# Altium schematic symbol library SCH - MCU - SI LABS - SI LABS EFR32BG22C224F512GN32 32-PIN QFN 4X4.SchLib: 1 symbol
Pins are listed as number, name and electrical type; pins without a type are passive.

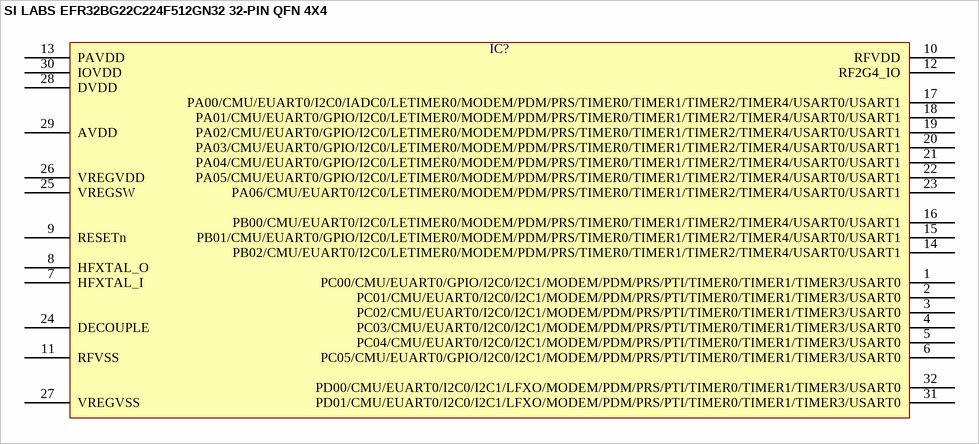
[diagram p0: symbol SI LABS EFR32BG22C224F512GN32 32-PIN QFN 4X4]

## SI LABS EFR32BG22C224F512GN32 32-PIN QFN 4X4
designator IC?  (value not drawn)
pins: 1 PC00/CMU/EUART0/GPIO/I2C0/I2C1/MODEM/PDM/PRS/PTI/TIMER0/TIMER1/TIMER3/USART0, 2 PC01/CMU/EUART0/I2C0/I2C1/MODEM/PDM/PRS/PTI/TIMER0/TIMER1/TIMER3/USART0, 3 PC02/CMU/EUART0/I2C0/I2C1/MODEM/PDM/PRS/PTI/TIMER0/TIMER1/TIMER3/USART0, 4 PC03/CMU/EUART0/I2C0/I2C1/MODEM/PDM/PRS/PTI/TIMER0/TIMER1/TIMER3/USART0, 5 PC04/CMU/EUART0/I2C0/I2C1/MODEM/PDM/PRS/PTI/TIMER0/TIMER1/TIMER3/USART0, 6 PC05/CMU/EUART0/GPIO/I2C0/I2C1/MODEM/PDM/PRS/PTI/TIMER0/TIMER1/TIMER3/USART0, 7 HFXTAL_I, 8 HFXTAL_O, 9 RESETn, 10 RFVDD, 11 RFVSS, 12 RF2G4_IO, 13 PAVDD, 14 PB02/CMU/EUART0/I2C0/LETIMER0/MODEM/PDM/PRS/TIMER0/TIMER1/TIMER2/TIMER4/USART0/USART1, 15 PB01/CMU/EUART0/GPIO/I2C0/LETIMER0/MODEM/PDM/PRS/TIMER0/TIMER1/TIMER2/TIMER4/USART0/USART1, 16 PB00/CMU/EUART0/I2C0/LETIMER0/MODEM/PDM/PRS/TIMER0/TIMER1/TIMER2/TIMER4/USART0/USART1, 17 PA00/CMU/EUART0/I2C0/IADC0/LETIMER0/MODEM/PDM/PRS/TIMER0/TIMER1/TIMER2/TIMER4/USART0/USART1, 18 PA01/CMU/EUART0/GPIO/I2C0/LETIMER0/MODEM/PDM/PRS/TIMER0/TIMER1/TIMER2/TIMER4/USART0/USART1, 19 PA02/CMU/EUART0/GPIO/I2C0/LETIMER0/MODEM/PDM/PRS/TIMER0/TIMER1/TIMER2/TIMER4/USART0/USART1, 20 PA03/CMU/EUART0/GPIO/I2C0/LETIMER0/MODEM/PDM/PRS/TIMER0/TIMER1/TIMER2/TIMER4/USART0/USART1, 21 PA04/CMU/EUART0/GPIO/I2C0/LETIMER0/MODEM/PDM/PRS/TIMER0/TIMER1/TIMER2/TIMER4/USART0/USART1, 22 PA05/CMU/EUART0/GPIO/I2C0/LETIMER0/MODEM/PDM/PRS/TIMER0/TIMER1/TIMER2/TIMER4/USART0/USART1, 23 PA06/CMU/EUART0/I2C0/LETIMER0/MODEM/PDM/PRS/TIMER0/TIMER1/TIMER2/TIMER4/USART0/USART1, 24 DECOUPLE, 25 VREGSW, 26 VREGVDD, 27 VREGVSS, 28 DVDD, 29 AVDD, 30 IOVDD, 31 PD01/CMU/EUART0/I2C0/I2C1/LFXO/MODEM/PDM/PRS/PTI/TIMER0/TIMER1/TIMER3/USART0, 32 PD00/CMU/EUART0/I2C0/I2C1/LFXO/MODEM/PDM/PRS/PTI/TIMER0/TIMER1/TIMER3/USART0